# Altium footprint library Panasonic Footprints.PcbLib: 49 footprints (part 2 of 4)
Each footprint in its own frame and in the unit in brackets; x right, y up, seen from the top. Pads: shape width x height; smd on the part's side, far side on the other; paste and mask are expansions set on the pad; w line width, h text height; cw(c..) or ccw(c..) is an arc to the next point about the centre after c.
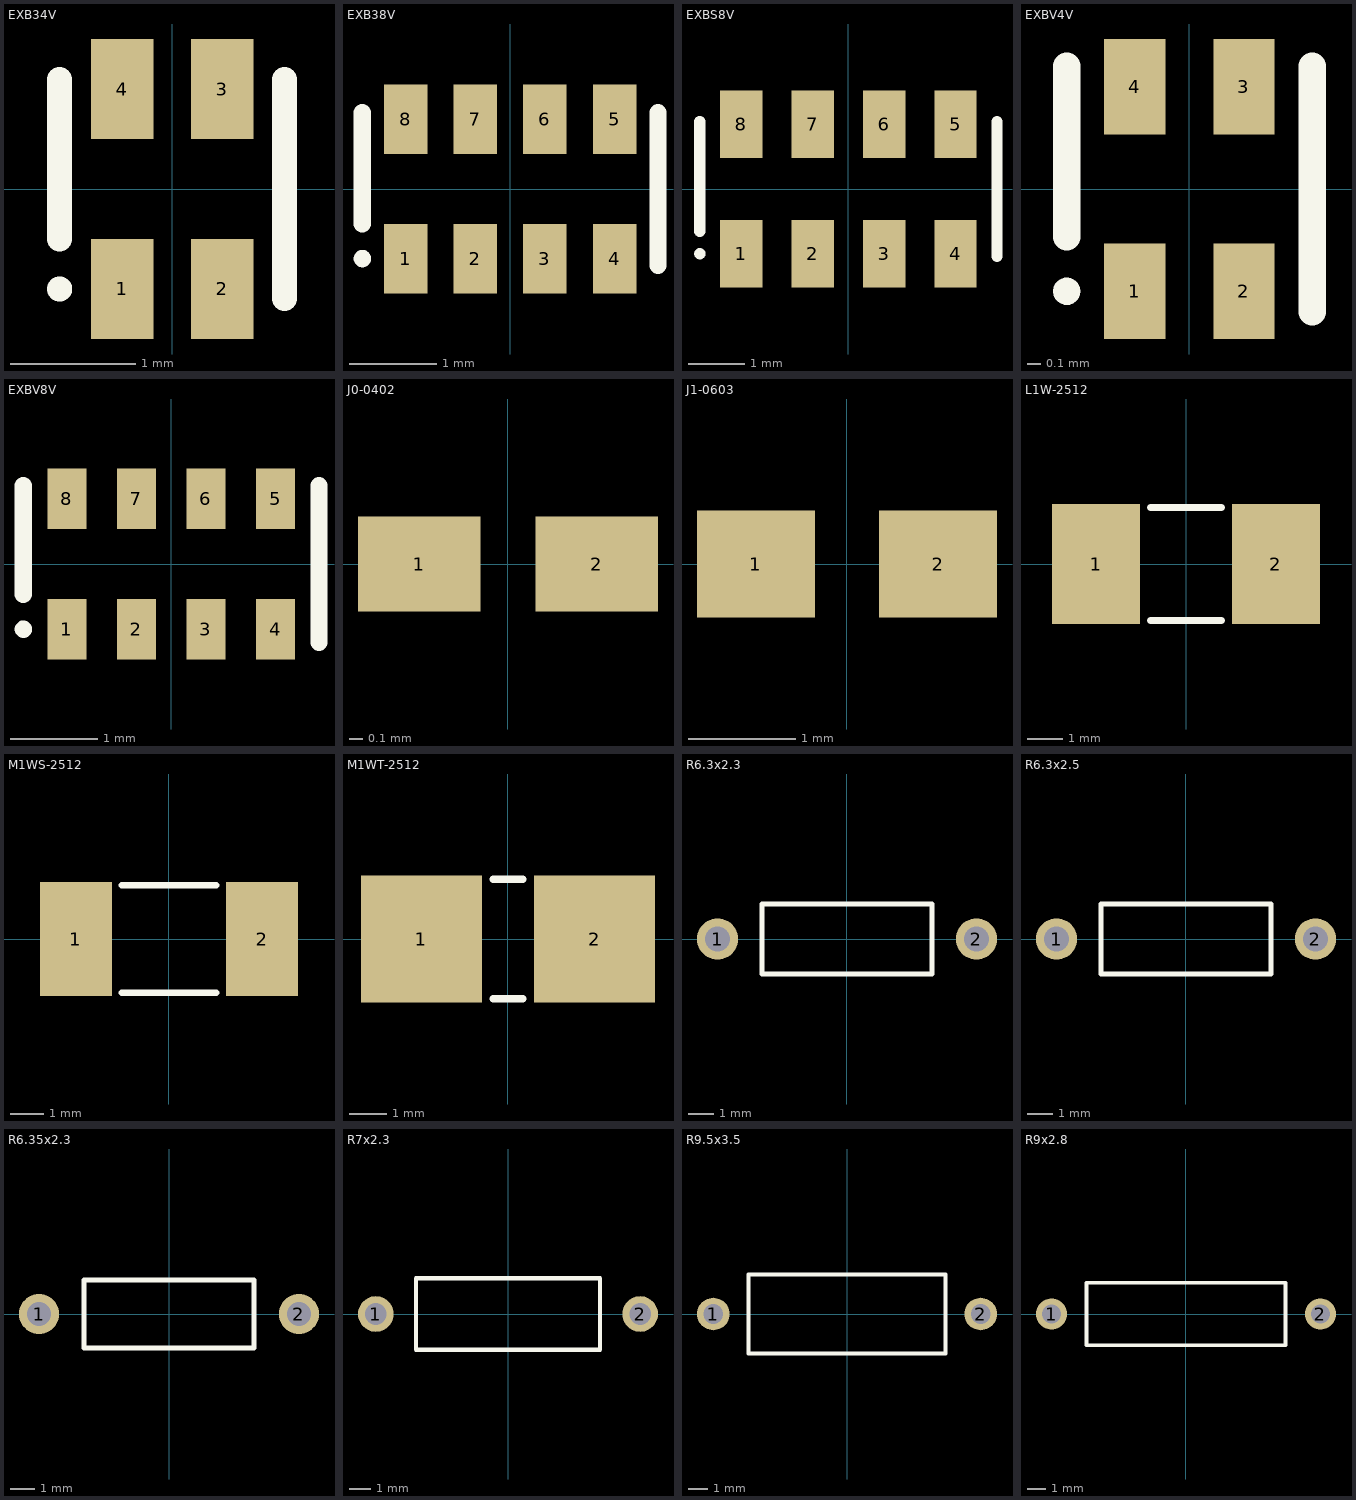
[diagram p1: the footprints below, top view; thin cyan lines are the x and y axes]

## EXB34V [mm] "Chip Resistor Array, (0603x2); SM; 4 Leads; Body 1.80 x 1.75 mm (LxW max)"
height 0.6
pads (4):
  rect 0.5x0.8 smd: 1(-0.4,-0.8) 2(0.4,-0.8) 3(0.4,0.8) 4(-0.4,0.8)
Top Overlay:
  circle w0.1: c-0.9,-0.8 r0.05
  lines w0.2: -0.9,-0.4 -0.9,0.875 ; 0.9,-0.875 0.9,0.875

## EXB38V [mm] "Chip Resistor Array, (0603x4); SM; 8 Leads; Body 3.40 x 1.75 mm (LxW max)"
height 0.6
pads (8):
  rect 0.5x0.8 smd: 1(-1.2,-0.8) 2(-0.4,-0.8) 3(0.4,-0.8) 4(1.2,-0.8) 5(1.2,0.8) 6(0.4,0.8) 7(-0.4,0.8) 8(-1.2,0.8)
Top Overlay:
  circle w0.1: c-1.7,-0.8 r0.05
  lines w0.2: -1.7,-0.4 -1.7,0.875 ; 1.7,-0.875 1.7,0.875

## EXBS8V [mm] "Chip Resistor Array, (0805x4); SM; 8 Leads; Body 5.28 x 2.40 mm (LxW max)"
height 0.9
pads (8):
  rect 0.75x1.2 smd: 1(-1.905,-1.15) 2(-0.635,-1.15) 3(0.635,-1.15) 4(1.905,-1.15) 5(1.905,1.15) 6(0.635,1.15) 7(-0.635,1.15) 8(-1.905,1.15)
Top Overlay:
  circle w0.1: c-2.64,-1.15 r0.05
  lines w0.2: -2.64,-0.75 -2.64,1.2 ; 2.64,-1.2 2.64,1.2

## EXBV4V [mm] "Chip Resistor Array, (0603x2); SM; 4 Leads; Body 1.80 x 1.80 mm (LxW max)"
height 0.7
pads (4):
  rect 0.45x0.7 smd: 1(-0.4,-0.75) 2(0.4,-0.75) 3(0.4,0.75) 4(-0.4,0.75)
Top Overlay:
  circle w0.1: c-0.9,-0.75 r0.05
  lines w0.2: -0.9,-0.35 -0.9,0.9 ; 0.9,-0.9 0.9,0.9

## EXBV8V [mm] "Chip Resistor Array, (0603x4); SM; 8 Leads; Body 3.40 x 1.80 mm (LxW max)"
height 0.7
pads (8):
  rect 0.45x0.7 smd: 1(-1.2,-0.75) 2(-0.4,-0.75) 3(0.4,-0.75) 4(1.2,-0.75) 5(1.2,0.75) 6(0.4,0.75) 7(-0.4,0.75) 8(-1.2,0.75)
Top Overlay:
  circle w0.1: c-1.7,-0.75 r0.05
  lines w0.2: -1.7,-0.35 -1.7,0.9 ; 1.7,-0.9 1.7,0.9

## J0-0402 [mm] "Chip Resistor; Body 1 x 0.5 mm (LxW typ)"
height 0.55
pads (2):
  rect 0.9x0.7 smd: 1(-0.65,0) 2(0.65,0)

## J1-0603 [mm] "Chip Resistor; Body 1.6 x 0.8 mm (LxW typ)"
height 0.9
pads (2):
  rect 1.1x1 smd: 1(-0.85,0) 2(0.85,0)

## L1W-2512 [mm] "Chip Resistor; Body 6.4 x 3.2 mm (LxW typ)"
height 1.2
pads (2):
  rect 2.5x3.4 smd: 1(-2.55,0) 2(2.55,0)
Top Overlay:
  lines w0.2: -1,-1.6 1,-1.6 ; -1,1.6 1,1.6

## M1WS-2512 [mm] "Chip Resistor; Body 6.4 x 3.2 mm (LxW typ)"
height 1.1
pads (2):
  rect 2.15x3.4 smd: 1(-2.775,0) 2(2.775,0)
Top Overlay:
  lines w0.2: -1.4,-1.6 1.4,-1.6 ; -1.4,1.6 1.4,1.6

## M1WT-2512 [mm] "Chip Resistor; Body 6.4 x 3.2 mm (LxW typ)"
height 1.1
pads (2):
  rect 3.25x3.4 smd: 1(-2.325,0) 2(2.325,0)
Top Overlay:
  lines w0.2: -0.4,-1.6 0.4,-1.6 ; -0.4,1.6 0.4,1.6

## R6.3x2.3 [mm] "Resistor, Axial; Body 6.8 x 2.8 mm (LxDia. max), Lead Dia. 0.65 mm (max)"
height 2.8
pads (2):
  round 1.65 hole 1: 1(-5.175,0) 2(5.175,0)
Top Overlay:
  lines w0.2: -3.4,-1.4 -3.4,1.4 3.4,1.4 3.4,-1.4 -3.4,-1.4

## R6.3x2.5 [mm] "Resistor, Axial; Body 6.8 x 2.7 mm (LxDia. max), Lead Dia. 0.65 mm (max)"
height 2.7
pads (2):
  round 1.65 hole 1: 1(-5.175,0) 2(5.175,0)
Top Overlay:
  lines w0.2: -3.4,-1.4 -3.4,1.4 3.4,1.4 3.4,-1.4 -3.4,-1.4

## R6.35x2.3 [mm] "Resistor, Axial; Body 7 x 2.8 mm (LxDia. max), Lead Dia. 0.7 mm (max)"
height 2.8
pads (2):
  round 1.65 hole 1: 1(-5.35,0) 2(5.35,0)
Top Overlay:
  lines w0.2: -3.5,-1.4 -3.5,1.4 3.5,1.4 3.5,-1.4 -3.5,-1.4

## R7x2.3 [mm] "Resistor, Axial; Body 8.5 x 3.3 mm (LxDia. max), Lead Dia. 0.7 mm (max)"
height 3.3
pads (2):
  round 1.65 hole 1: 1(-6.1,0) 2(6.1,0)
Top Overlay:
  lines w0.2: -4.25,-1.65 -4.25,1.65 4.25,1.65 4.25,-1.65 -4.25,-1.65

## R9.5x3.5 [mm] "Resistor, Axial; Body 10 x 4 mm (LxDia. max), Lead Dia. 0.65 mm (max)"
height 4
pads (2):
  round 1.65 hole 1: 1(-6.775,0) 2(6.775,0)
Top Overlay:
  lines w0.2: -5,-2 -5,2 5,2 5,-2 -5,-2

## R9x2.8 [mm] "Resistor, Axial; Body 10.5 x 3.3 mm (LxDia. max), Lead Dia. 0.7 mm (max)"
height 3.3
pads (2):
  round 1.65 hole 1: 1(-7.1,0) 2(7.1,0)
Top Overlay:
  lines w0.2: -5.25,-1.65 -5.25,1.65 5.25,1.65 5.25,-1.65 -5.25,-1.65